# Altium integrated library ESD5B5.0ST1G.IntLib: 1 symbol
Pins are listed as number, name and electrical type; pins without a type are passive.

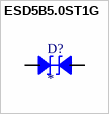
[diagram p0: symbol ESD5B5.0ST1G]

## ESD5B5.0ST1G
designator D?
- Clamp - Ipp Tvs Diode Surface Mount SOD-523; MF: ON Semiconductor; MP: ESD5B5.0ST1G; SnapEDA_Link: https://www.snapeda.com/parts/ESD5B5.0ST1G/Onsemi/view-part/?ref=snap; Package: SOD-523-2 ON Semiconductor; Value: *; Check_prices: https://www.snapeda.com/parts/ESD5B5.0ST1G/Onsemi/view-part/?ref=eda
footprint SOD523
pins: A P$1, K P$2